# Altium schematic symbol library SSTR.SCHLIB: 1 symbol
Pins are listed as number, name and electrical type; pins without a type are passive.

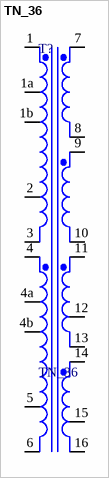
[diagram p0: symbol TN_36]

## TN_36
designator T?
TN 36
footprint TRF_8 (Transformer; 8 Leads)
simulation model NI4WTRANS (Spice Subcircuit)
pins: 1, 1a, 1b, 2, 3, 4, 4a, 4b, 5, 6, 7, 8, 9, 10, 11, 12, 13, 14, 15, 16